# Altium footprint library GanInverter.PcbLib: 9 footprints
Each footprint in its own frame and in the unit in brackets; x right, y up, seen from the top. Pads: shape width x height; smd on the part's side, far side on the other; paste and mask are expansions set on the pad; w line width, h text height; cw(c..) or ccw(c..) is an arc to the next point about the centre after c.
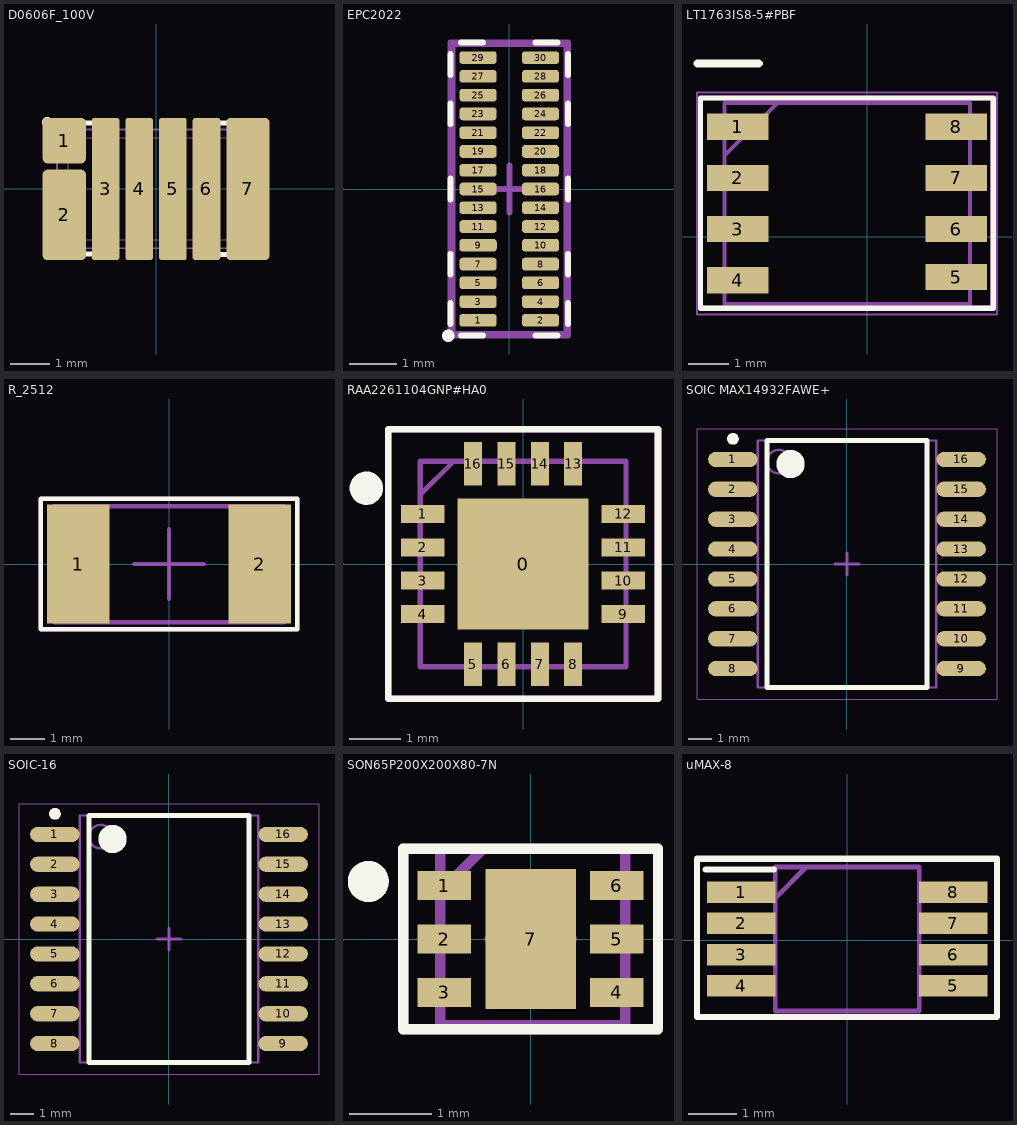
[diagram p0: the footprints below, top view; thin cyan lines are the x and y axes]

## D0606F_100V [mm] "QFN3x5 100V Full Die"
height 0.65
pads (34):
  rrect20% 1.091x1.15 smd paste-1 mask-1: 1(-2.321,1.222)
  rrect20% 1.091x2.29 smd paste-1 mask-1: 2(-2.321,-0.658)
  rrect20% 0.7x3.6 smd paste-1 mask-1: 3(-1.275,0) 4(-0.425,0) 5(0.425,0) 6(1.275,0)
  rrect20% 1.091x3.6 smd paste-1 mask-1: 7(2.321,0)
  rrect50% 0.7x0.37 on Top Solder paste-1 mask-1: ""(-2.351,-0.975) ""(-2.351,-0.325) ""(-2.351,0.975) ""(2.351,-0.975) ""(2.351,-0.325) ""(2.351,0.325) ""(2.351,0.975)
  rrect50% 0.76x0.37 on Top Solder paste-1 mask-1: ""(-2.321,0.225)
  rrect50% 0.54x1.78 on Top Paste paste-1 mask-1: ""(-2.275,-0.6)
  rrect50% 0.6x0.72 on Top Paste paste-1 mask-1: ""(-2.275,1.2)
  rrect50% 0.47x2.075 on Top Solder paste-1 mask-1: ""(-2.175,-0.663)
  rrect50% 0.47x0.985 on Top Solder paste-1 mask-1: ""(-2.175,1.207)
  rrect50% 0.26x1.4 on Top Paste paste-1 mask-1: ""(-1.275,-0.85) ""(-1.275,0.85) ""(-0.425,-0.85) ""(-0.425,0.85) ""(0.425,-0.85) ""(0.425,0.85) ""(1.275,-0.85) ""(1.275,0.85)
  rrect50% 0.37x3.4 on Top Solder paste-1 mask-1: ""(-1.275,0) ""(-0.425,0) ""(0.425,0) ""(1.275,0)
  rrect50% 0.47x3.4 on Top Solder paste-1 mask-1: ""(2.175,0)
  rrect50% 0.54x1.4 on Top Paste paste-1 mask-1: ""(2.29,-0.85) ""(2.29,0.85)
Top Overlay:
  circle w0.254: c-2.749,1.69 r0.006
  lines w0.127: -2.722,-1.558 -2.722,-1.273 ; -2.722,1.277 -2.722,1.399 ; -1.794,-1.65 -1.593,-1.65 ; -1.779,1.663 -1.577,1.663 ; 1.577,-1.663 1.778,-1.663 ; 1.577,1.663 1.778,1.663 ; 2.746,-1.646 2.745,-1.302 ; 2.746,1.307 2.746,1.667
Top Value:
  lines w0.01: -2.225,-1.29 2.225,-1.29 2.225,1.29 -2.225,1.29 -2.225,-1.29
  lines w0.013: -2.325,1.5 -2.025,1.5 ; -2.235,0.375 -2.115,0.375 ; -2.5,-1.1 -2.4,-1.1 cw(c-2.4,-1.15) -2.35,-1.15 -2.35,-1.5 -2,-1.5 -2,0.275 ccw(c-2.1,0.275) -2.1,0.375 -2.25,0.375 ccw(c-2.25,0.275) -2.316,0.35 -2.5,0.35 -2.5,0.1 -2.4,0.1 cw(c-2.4,0.05) -2.35,0.05 -2.35,-0.15 cw(c-2.4,-0.15) -2.4,-0.2 -2.5,-0.2 -2.5,-0.45 -2.4,-0.45 cw(c-2.4,-0.5) -2.35,-0.5 -2.35,-0.8 cw(c-2.4,-0.8) -2.4,-0.85 -2.5,-0.85 -2.5,-1.1 ; -2.5,0.865 -2.349,0.865 ccw(c-2.25,0.875) -2.25,0.775 -2.165,0.775 -2,0.94 -2,1.5 -2.35,1.5 -2.35,1.135 cw(c-2.4,1.135) -2.4,1.085 -2.5,1.085 -2.5,0.865 ; -2.325,-1.5 -2.025,-1.5 -2.325,-1.5 ; -1.4,-1.5 -1.15,-1.5 -1.15,1.5 -1.4,1.5 -1.4,-1.5 ; -0.55,-1.5 -0.3,-1.5 -0.3,1.5 -0.55,1.5 -0.55,-1.5 ; 0.3,-1.5 0.55,-1.5 0.55,1.5 0.3,1.5 0.3,-1.5 ; 1.15,-1.5 1.4,-1.5 1.4,1.5 1.15,1.5 1.15,-1.5 ; 2,-1.5 2,1.5 2.35,1.5 2.35,1.135 ccw(c2.385,1.135) 2.385,1.1 2.5,1.1 2.5,0.85 2.385,0.85 ccw(c2.385,0.815) 2.35,0.815 2.35,0.485 ccw(c2.385,0.485) 2.385,0.45 2.5,0.45 2.5,0.2 2.385,0.2 ccw(c2.385,0.165) 2.35,0.165 2.35,-0.165 ccw(c2.385,-0.165) 2.385,-0.2 2.5,-0.2 2.5,-0.45 2.385,-0.45 ccw(c2.385,-0.485) 2.35,-0.485 2.35,-0.815 ccw(c2.385,-0.815) 2.385,-0.85 2.5,-0.85 2.5,-1.1 2.385,-1.1 ccw(c2.385,-1.135) 2.35,-1.135 2.35,-1.5 2,-1.5
  lines w0.05: -2.5,-1.5 -2.5,1.5 2.5,1.5 2.5,-1.5 -2.5,-1.5
3D body: height 0.25, standoff 0.05, extent -2.5,-1.5 -2,0.375
3D body: height 0.25, standoff 0.05, extent 2,-1.5 2.5,1.5
3D body: height 0.25, standoff 0.05, extent -2.5,0.775 -2,1.5
3D body: height 0.65, standoff 0.15, extent -2.475,-1.475 2.472,1.476
3D body: height 0.25, standoff 0.05, extent 1.15,-1.5 1.4,1.5
3D body: height 0.25, standoff 0.05, extent 0.3,-1.5 0.55,1.5
3D body: height 0.25, standoff 0.05, extent -0.55,-1.5 -0.3,1.5
3D body: height 0.25, standoff 0.05, extent -1.4,-1.5 -1.15,1.5
3D body: height 0.75, standoff 0.2, extent -2.225,-1.29 2.225,1.29
3D body: height 0.75, standoff 0.75, extent -1.954,0.77 -1.655,1.07
3D body "3D_EPClogo4mm.step": height 0.76, standoff 0.75, extent -1.892,-0.875 2.092,0.923

## EPC2022 [mm]
pads (60):
  rrect50% 0.794x0.27 smd paste-0.037 mask-0.274: 1(-0.665,-2.8) 2(0.665,-2.8) 3(-0.665,-2.4) 4(0.665,-2.4) 5(-0.665,-2) 7(-0.665,-1.6) 8(0.665,-1.6) 10(0.665,-1.2) 11(-0.665,-0.8) 12(0.665,-0.8) 13(-0.665,-0.4) 14(0.665,-0.4) 15(-0.665,0) 16(0.665,0) 17(-0.665,0.4) 18(0.665,0.4) 19(-0.665,0.8) 20(0.665,0.8) 21(-0.665,1.2) 22(0.665,1.2) 23(-0.665,1.6) 24(0.665,1.6) 25(-0.665,2) 26(0.665,2) 27(-0.665,2.4) 28(0.665,2.4) 29(-0.665,2.8) 30(0.665,2.8)
  rrect50% 0.794x0.27 smd paste-0.037 mask-0.24: 6(0.665,-2)
  rrect50% 0.795x0.27 smd paste-0.037 mask-0.274: 9(-0.665,-1.2)
  oval 0.7x0.18 on Top Solder paste-0.18 mask+0: ""(-0.665,-2.8) ""(-0.665,-2.4) ""(-0.665,-2) ""(-0.665,-1.6) ""(-0.665,-1.2) ""(-0.665,-0.8) ""(-0.665,-0.4) ""(-0.665,0) ""(-0.665,0.4) ""(-0.665,0.8) ""(-0.665,1.2) ""(-0.665,1.6) ""(-0.665,2) ""(-0.665,2.4) ""(-0.665,2.8) ""(0.665,-2.8) ""(0.665,-2.4) ""(0.665,-2) ""(0.665,-1.6) ""(0.665,-1.2) ""(0.665,-0.8) ""(0.665,-0.4) ""(0.665,0) ""(0.665,0.4) ""(0.665,0.8) ""(0.665,1.2) ""(0.665,1.6) ""(0.665,2) ""(0.665,2.4) ""(0.665,2.8)
Top Overlay:
  circle w0.254: c-1.3,-3.125 r0.006
  lines w0.127: -1.252,-1.82 -1.252,-1.38 ; -1.252,-0.22 -1.252,0.22 ; -1.252,1.38 -1.252,1.82 ; -1.25,-2.874 -1.25,-2.433 ; -1.25,2.433 -1.25,2.874 ; -1.025,-3.125 -0.56,-3.125 ; -1.025,3.125 -0.56,3.125 ; 0.56,-3.125 1.025,-3.125 ; 0.56,3.125 1.025,3.125 ; 1.25,-2.874 1.25,-2.433 ; 1.25,2.433 1.25,2.874 ; 1.251,-1.82 1.251,-1.38 ; 1.251,-0.22 1.251,0.22 ; 1.251,1.38 1.251,1.82
Top Assembly:
  lines w0.05: -1.175,-3.05 -1.175,3.05 1.175,3.05 1.175,-3.05 -1.175,-3.05
Top Courtyard:
  lines w0.127: -1.25,-3.125 -1.25,3.125 1.25,3.125 1.25,-3.125 -1.25,-3.125
Top Designator:
  text ".Designator" at 1.902,2.11 h1
Top Component Center:
  lines w0.127: -0.5,0 0,0 ; 0,-0.5 0,0.5 0,0 ; 0.5,0 0,0
3D body: height 0.78, standoff 0.1, extent -1.155,-3.025 1.154,3.025

## LT1763IS8-5#PBF [mm]
pads (8):
  rect 1.526x0.65 smd: 1(-3.22,2.731) 2(-3.22,1.461) 3(-3.22,0.191) 4(-3.22,-1.079) 5(2.2,-1) 6(2.204,0.191) 7(2.204,1.461) 8(2.204,2.731)
Top Overlay:
  lines w0.127: -4.15,-1.775 -4.15,3.45 3.125,3.45 3.125,-1.775 -4.15,-1.775
  lines w0.2: -4.225,4.3 -2.7,4.3
Top Assembly:
  lines w0.1: -3.533,2.032 -2.263,3.302 ; -3.55,-1.675 -3.55,3.325 2.55,3.325 2.55,-1.675 -3.55,-1.675
Top Courtyard:
  lines w0.127: -4.15,-1.775 -4.15,3.45 3.125,3.45 3.125,-1.775 -4.15,-1.775
Mechanical 15:
  lines w0.05: -4.233,-1.926 3.217,-1.926 3.217,3.578 -4.233,3.578 -4.233,-1.926
3D body "LT1763IS8-5#PBF.stp": height 1.75, standoff 0, extent -3.505,-1.625 2.489,3.277

## R_2512 [mm]
pads (2):
  rect 1.8x3.4 smd: 1(-2.6,0) 2(2.6,0)
Top Overlay:
  lines w0.127: -3.675,-1.875 -3.675,1.875 3.675,1.875 3.675,-1.875 -3.675,-1.875
Top Assembly:
  lines w0.127: -3.3,-1.65 -3.3,1.65 3.3,1.65 3.3,-1.675 ; -3.275,-1.675 3.3,-1.675 ; 3.3,-1.675 3.3,-1.675
Top Courtyard:
  lines w0.127: -3.675,-1.875 -3.675,1.875 3.675,1.875 3.675,-1.875 -3.675,-1.875
Top Designator:
  text ".Designator" at -3.746,4.762 h1.52
Top Component Center:
  lines w0.127: 0,-1 0,1 0,0 -1,0 1,0
Top Value:
  text "1mR" at -3.746,2.254 h1.52
3D body "RES_1L00x_BRN.step": height 0.86, standoff 0, extent -3.213,-1.613 3.263,1.613

## RAA2261104GNP#HA0 [mm]
pads (17):
  rect 2.55x2.55 smd: 0(0,0)
  rect 0.85x0.35 smd: 1(-1.95,0.975) 2(-1.95,0.325) 3(-1.95,-0.325) 4(-1.95,-0.975) 9(1.95,-0.975) 10(1.95,-0.325) 11(1.95,0.325) 12(1.95,0.975)
  rect 0.35x0.85 smd: 5(-0.975,-1.95) 6(-0.325,-1.95) 7(0.325,-1.95) 8(0.975,-1.95) 13(0.975,1.95) 14(0.325,1.95) 15(-0.325,1.95) 16(-0.975,1.95)
Top Overlay:
  circle w0.325: c-3.05,1.475 r0.162
  lines w0.127: -2.625,-2.625 2.625,-2.625 2.625,2.625 -2.625,2.625 -2.625,-2.625
Top Assembly:
  lines w0.1: -2,1.35 -1.35,2 ; -2,-2 2,-2 2,2 -2,2 -2,-2
Top Courtyard:
  lines w0.127: -2.625,-2.625 2.625,-2.625 2.625,2.625 -2.625,2.625 -2.625,-2.625
Top Designator:
  text ".Designator'" at 3.1,3.367 h0.8
Top Component Center:
  lines w0.127: -1,0 1,0 ; 0,-1 0,0 0,1
3D body "RAA2261104GNP#AA0.stp": height 1, standoff 0, extent -2.05,-2.05 2.05,2.05

## SOIC MAX14932FAWE+ [mm] "SOIC, 16-Leads, Body 10.5x7.6mm, Pitch 1.27mm, IPC Low Density"
height 2.65
pads (16):
  oval 2.1x0.65 smd: 1(-4.85,4.445) 2(-4.85,3.175) 3(-4.85,1.905) 4(-4.85,0.635) 5(-4.85,-0.635) 6(-4.85,-1.905) 7(-4.85,-3.175) 8(-4.85,-4.445) 9(4.85,-4.445) 10(4.85,-3.175) 11(4.85,-1.905) 12(4.85,-0.635) 13(4.85,0.635) 14(4.85,1.905) 15(4.85,3.175) 16(4.85,4.445)
Top Overlay:
  circle w0.6: c-2.4,4.25 r0.3
  circle w0.25: c-4.85,5.32 r0.125
  lines w0.2: -3.4,-5.25 3.4,-5.25 3.4,5.25 -3.4,5.25 -3.4,-5.25
Top Assembly:
  circle w0.1: c-2.9,4.35 r0.5
  lines w0.1: -3.8,-5.25 3.8,-5.25 3.8,5.25 -3.8,5.25 -3.8,-5.25
Top Courtyard:
  lines w0.05: -6.375,-5.75 6.375,-5.75 6.375,5.75 -6.375,5.75 -6.375,-5.75
Top Designator:
  text ".Designator" at -1.624,-0.8 h1.52
Top Component Center:
  lines w0.127: -0.5,0 0.5,0 0,0 ; 0,-0.475 0,0 ; 0,0.475 0,0
3D body "SOIC127P1030X265-16M.step": height 2.65, standoff 0, extent -5.162,-5.25 5.163,5.25

## SOIC-16 [mm] "SOIC, 16-Leads, Body 10.5x7.6mm, Pitch 1.27mm, IPC Low Density"
height 2.65
pads (16):
  oval 2.1x0.65 smd: 1(-4.85,4.445) 2(-4.85,3.175) 3(-4.85,1.905) 4(-4.85,0.635) 5(-4.85,-0.635) 6(-4.85,-1.905) 7(-4.85,-3.175) 8(-4.85,-4.445) 9(4.85,-4.445) 10(4.85,-3.175) 11(4.85,-1.905) 12(4.85,-0.635) 13(4.85,0.635) 14(4.85,1.905) 15(4.85,3.175) 16(4.85,4.445)
Top Overlay:
  circle w0.25: c-4.85,5.32 r0.125
  circle w0.6: c-2.4,4.25 r0.3
  lines w0.2: -3.4,-5.25 -3.4,5.25 3.4,5.25 3.4,-5.25 -3.4,-5.25
Top Assembly:
  circle w0.1: c-2.9,4.35 r0.5
  lines w0.1: -3.8,-5.25 -3.8,5.25 3.8,5.25 3.8,-5.25 -3.8,-5.25
Top Courtyard:
  lines w0.05: -6.375,-5.75 -6.375,5.75 6.375,5.75 6.375,-5.75 -6.375,-5.75
Top Designator:
  text ".Designator" at -1.624,-0.8 h1.52
Top Component Center:
  lines w0.127: -0.5,0 0.5,0 0,0 ; 0,-0.475 0,0 ; 0,0.475 0,0
3D body "SOIC127P1030X265-16M.step": height 2.65, standoff 0, extent -5.162,-5.25 5.163,5.25

## SON65P200X200X80-7N [mm]
pads (7):
  rect 0.65x0.35 smd: 1(-1.05,0.65) 2(-1.05,0) 3(-1.05,-0.65) 4(1.05,-0.65) 5(1.05,0) 6(1.05,0.65)
  rect 1.1x1.7 smd: 7(0,0)
Top Overlay:
  circle w0.25: c-1.975,0.7 r0.125
  lines w0.127: -1.55,-1.1 -1.55,1.1 1.55,1.1 1.55,-1.1 -1.55,-1.1
Top Assembly:
  lines w0.127: -1.075,0.6 -0.575,1.1 ; -1.1,-1.05 -1.1,1.1 1.15,1.1 1.15,-1.05 -1.1,-1.05
Top Courtyard:
  lines w0.127: -1.55,-1.1 1.55,-1.1 1.55,1.1 -1.1,1.1 -1.55,1.1 -1.55,-1.1
Top Designator:
  text ".Designator" at 0.354,1.537 h1.52
Top Component Center:
  lines w0.127: -0.5,0 0.5,0 ; 0,-0.5 0,0.5
3D body "NCP730BMT500TBG.stp": height 0.8, standoff 0, extent -1.025,-0.975 1.075,1.025

## uMAX-8 [mm]
pads (8):
  rect 1.425x0.45 smd: 1(-2.206,1.002) 2(-2.206,0.352) 3(-2.206,-0.298) 4(-2.206,-0.948) 5(2.218,-0.948) 6(2.218,-0.298) 7(2.218,0.352) 8(2.218,1.002)
Top Overlay:
  lines w0.127: -2.95,1.475 -1.525,1.475 ; -3.125,-1.6 3.125,-1.6 3.125,1.7 -3.125,1.7 -3.125,-1.6
Top Assembly:
  lines w0.1: -1.494,0.877 -0.844,1.527 ; -1.494,-1.473 -1.494,1.527 1.506,1.527 1.506,-1.473 -1.494,-1.473
Top Courtyard:
  lines w0.05: -3.125,-1.6 -3.125,1.7 3.125,1.7 3.125,-1.6 -3.125,-1.6
3D body "MAX40056TAUA+.stp": height 1.1, standoff 0, extent -2.447,-1.473 2.458,1.527